# EAGLE library part ROCKET_8X10_SHIELD (library KaiBader-Rockets)
A ROCKET PCB SHIELD with a approx. 100x80 mm dimension. The pins are Arduino compatible. An additional keep out area of approx. 1 mm was defined around the border. CC-BY-SA 4.0 - 2015 - Kai Christian Bader - http://www.kaibader.de
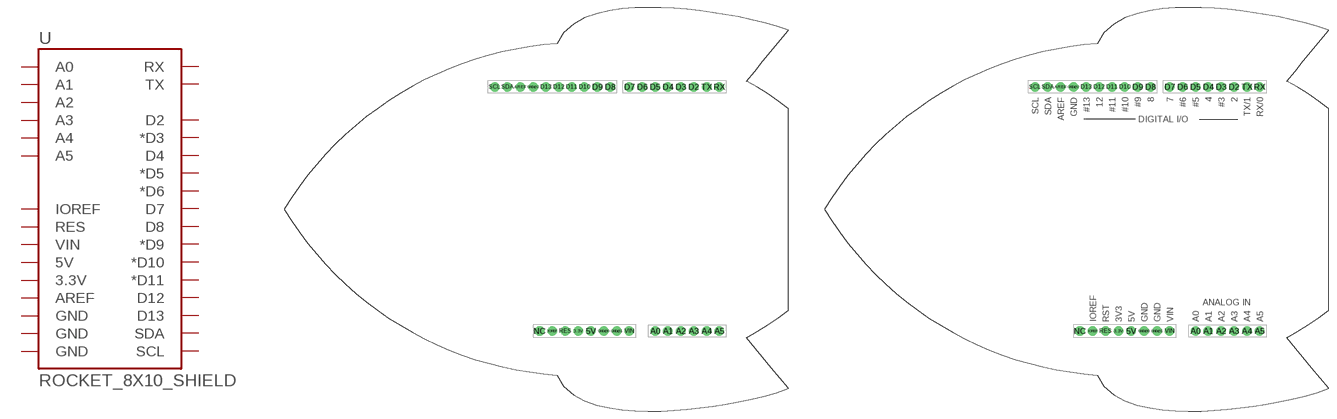
[diagram p0: symbol with the pads of ROCKET_8X10_SHIELD; footprints ROCKET_8X10_SHIELD, ROCKET_8X10_SHIELD_REF]

Designator prefix U

## ROCKET_8X10_SHIELD  [ROCKET_8X10_SHIELD]
3.3V  3.3V
5V  5V
A0  A0
A1  A1
A2  A2
A3  A3
A4  A4
A5  A5
AREF  AREF
D2  D2
D3  *D3
D4  D4
D5  *D5
D6  *D6
D7  D7
D8  D8
D9  *D9
D10  *D10
D11  *D11
D12  D12
D13  D13
GND@0  GND
GND@1  GND
GND@2  GND
IOREF  IOREF
RES  RES
RX  RX
SCL  SCL
SDA  SDA
TX  TX
VIN  VIN

## ROCKET_8X10_SHIELDREF  [ROCKET_8X10_SHIELD_REF]
Pads as for ROCKET_8X10_SHIELD

## Footprint ROCKET_8X10_SHIELD (pad centres in mm)
A ROCKET PCB SHIELD with a approx. 100x80 mm dimension. The pins are Arduino compatible. An additional keep out area of approx. 1 mm was defined around the border. CC-BY-SA 4.0 - 2015 - Kai Christian Bader - http://www.kaibader.de
drill 1.016 pad 1.88: 3.3V 58.28,15.97; 5V 60.82,15.97; A0 73.52,15.97; A1 76.06,15.97; A2 78.6,15.97; A3 81.14,15.97; A4 83.68,15.97; A5 86.22,15.97; AREF 46.85,64.23; D2 81.14,64.23; D3 78.6,64.23; D4 76.06,64.23; D5 73.52,64.23; D6 70.98,64.23; D7 68.44,64.23; D8 64.63,64.23; D9 62.09,64.23; D10 59.55,64.23; D11 57.01,64.23; D12 54.47,64.23; D13 51.93,64.23; GND@0 63.36,15.97; GND@1 65.9,15.97; GND@2 49.39,64.23; IOREF 53.2,15.97; NC 50.66,15.97; RES 55.74,15.97; RX 86.22,64.23; SCL 41.77,64.23; SDA 44.31,64.23; TX 83.68,64.23; VIN 68.44,15.97

## Footprint ROCKET_8X10_SHIELD_REF (pad centres in mm)
A ROCKET PCB SHIELD WITH REFERENCE INFO with a approx. 100x80 mm dimension. The pins are Arduino compatible. An additional keep out area of approx. 1 mm was defined around the border. CC-BY-SA 4.0 - 2015 - Kai Christian Bader - http://www.kaibader.de
drill 1.016 pad 1.88: 3.3V 58.28,15.97; 5V 60.82,15.97; A0 73.52,15.97; A1 76.06,15.97; A2 78.6,15.97; A3 81.14,15.97; A4 83.68,15.97; A5 86.22,15.97; AREF 46.85,64.23; D2 81.14,64.23; D3 78.6,64.23; D4 76.06,64.23; D5 73.52,64.23; D6 70.98,64.23; D7 68.44,64.23; D8 64.63,64.23; D9 62.09,64.23; D10 59.55,64.23; D11 57.01,64.23; D12 54.47,64.23; D13 51.93,64.23; GND@0 63.36,15.97; GND@1 65.9,15.97; GND@2 49.39,64.23; IOREF 53.2,15.97; NC 50.66,15.97; RES 55.74,15.97; RX 86.22,64.23; SCL 41.77,64.23; SDA 44.31,64.23; TX 83.68,64.23; VIN 68.44,15.97